# Altium schematic symbol library SamacSys.SchLib: 28 symbols
Pins are listed as number, name and electrical type; pins without a type are passive.

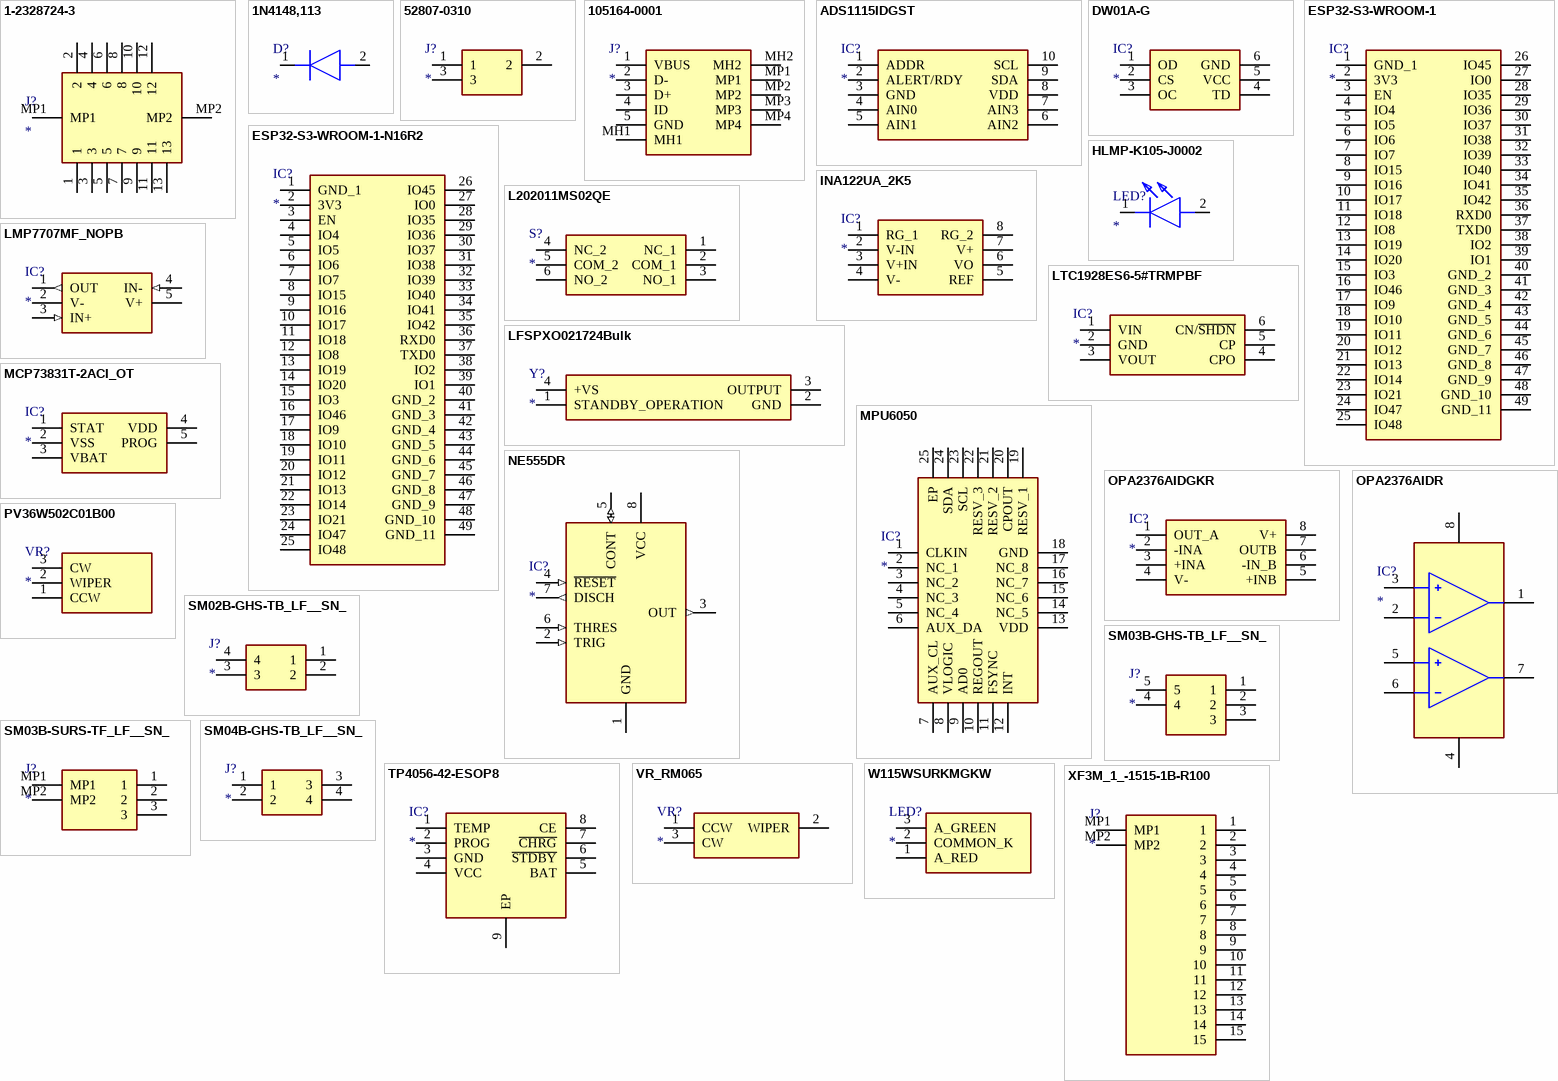
[diagram p0: symbols 1-2328724-3 to XF3M_1_-1515-1B-R100]

## 1-2328724-3
designator J?
Connector; Manufacturer_Name: TE Connectivity; Manufacturer_Part_Number: 1-2328724-3; Datasheet Link: https://www.te.com/commerce/DocumentDelivery/DDEController?Action=showdoc&DocId=Customer+Drawing%7F2328724%7F3%7Fpdf%7FEnglish%7FENG_CD_2328724_3.pdf%7F1-2328724-3; Height: 1.1mm; Mouser Part Number: 571-1-2328724-3; Mouser Price/Stock: https://www.mouser.co.uk/ProductDetail/TE-Connectivity/1-2328724-3?qs=w%2Fv1CP2dgqo8aBCjMy0R7g%3D%3D; Arrow Part Number: 1-2328724-3; Arrow Price/Stock: https://www.arrow.com/en/products/1-2328724-3/te-connectivity?region=nac
footprint 123287243
pins: 1, 2, 3, 4, 5, 6, 7, 8, 9, 10, 11, 12, 13, MP1, MP2

## 1N4148,113
designator D?
Diode; Manufacturer_Name: Nexperia; Manufacturer_Part_Number: 1N4148,113; Datasheet Link: https://assets.nexperia.com/documents/data-sheet/1N4148_1N4448.pdf; Arrow Part Number: 1N4148,113; Arrow Price/Stock: https://www.arrow.com/en/products/1n4148113/nexperia
footprint DIOAD1165W56L425D185
pins: 1 K, 2 A

## 52807-0310
designator J?
Connector; Manufacturer_Name: Molex; Manufacturer_Part_Number: 52807-0310; Datasheet Link: https://www.mouser.com/datasheet/2/276/0528070310_FFC_FPC_CONNECTORS-170814.pdf; Height: 3.6mm; Mouser Part Number: 538-52807-0310; Mouser Price/Stock: https://www.mouser.co.uk/ProductDetail/Molex/52807-0310?qs=359VwiUTsp2MnCLhAvpMeg%3D%3D
footprint 528070310
pins: 1, 2, 3

## 105164-0001
designator J?
Connector; Manufacturer_Name: Molex; Manufacturer_Part_Number: 105164-0001; Datasheet Link: https://www.molex.com/pdm_docs/sd/1051640001_sd.pdf; Height: 2.7mm; Mouser Part Number: 538-105164-0001; Mouser Price/Stock: https://www.mouser.co.uk/ProductDetail/Molex/105164-0001?qs=JAwGc6FMfvtRY4SkW%2FoGcQ%3D%3D
footprint 1051640001
pins: 1 VBUS, 2 D-, 3 D+, 4 ID, 5 GND, MH1, MH2, MP1, MP2, MP3, MP4

## ADS1115IDGST
designator IC?
Integrated Circuit; Manufacturer_Name: Texas Instruments; Manufacturer_Part_Number: ADS1115IDGST; Datasheet Link: https://datasheet.datasheetarchive.com/originals/distributors/Datasheets-SFU2/DSASFU100025989.pdf; Height: 1.1mm; Mouser Part Number: 595-ADS1115IDGST; Mouser Price/Stock: https://www.mouser.co.uk/ProductDetail/Texas-Instruments/ADS1115IDGST?qs=6805eV47HhY3JIwOhQ2zog%3D%3D; Arrow Part Number: ADS1115IDGST; Arrow Price/Stock: https://www.arrow.com/en/products/ads1115idgst/texas-instruments?region=nac
footprint SOP50P490X110-10N
pins: 1 ADDR, 2 ALERT/RDY, 3 GND, 4 AIN0, 5 AIN1, 6 AIN2, 7 AIN3, 8 VDD, 9 SDA, 10 SCL

## DW01A-G
designator IC?
Integrated Circuit; Manufacturer_Name: Fortune Semiconductor Corporation; Manufacturer_Part_Number: DW01A-G; Datasheet Link: http://acoptex.com/uploads/DW01A.pdf; Height: 1.35mm
footprint SOT95P280X135-6N
pins: 1 OD, 2 CS, 3 OC, 4 TD, 5 VCC, 6 GND

## ESP32-S3-WROOM-1
designator IC?
Integrated Circuit; Manufacturer_Name: Espressif Systems; Manufacturer_Part_Number: ESP32-S3-WROOM-1; Datasheet Link: https://www.mouser.com/catalog/specsheets/Espressif_ESP32_S3_WROOM_1_1U_Preliminary.pdf; Height: 3.25mm
footprint ESP32S3WROOM1
pins: 1 GND_1, 2 3V3, 3 EN, 4 IO4, 5 IO5, 6 IO6, 7 IO7, 8 IO15, 9 IO16, 10 IO17, 11 IO18, 12 IO8, 13 IO19, 14 IO20, 15 IO3, 16 IO46, 17 IO9, 18 IO10, 19 IO11, 20 IO12, 21 IO13, 22 IO14, 23 IO21, 24 IO47, 25 IO48, 26 IO45, 27 IO0, 28 IO35, 29 IO36, 30 IO37, 31 IO38, 32 IO39, 33 IO40, 34 IO41, 35 IO42, 36 RXD0, 37 TXD0, 38 IO2, 39 IO1, 40 GND_2, 41 GND_3, 42 GND_4, 43 GND_5, 44 GND_6, 45 GND_7, 46 GND_8, 47 GND_9, 48 GND_10, 49 GND_11

## ESP32-S3-WROOM-1-N16R2
designator IC?
Integrated Circuit; Manufacturer_Name: Espressif Systems; Manufacturer_Part_Number: ESP32-S3-WROOM-1-N16R2; Datasheet Link: https://www.elpro.org/gb/index.php?controller=attachment&id_attachment=18372; Height: 3.25mm; Mouser Part Number: 356-ESP32S3WRM1N16R2; Mouser Price/Stock: https://www.mouser.co.uk/ProductDetail/Espressif-Systems/ESP32-S3-WROOM-1-N16R2?qs=Li%252BoUPsLEnvy1bxV65eH%2Fw%3D%3D
footprint ESP32S3WROOM1N16R2
pins: 1 GND_1, 2 3V3, 3 EN, 4 IO4, 5 IO5, 6 IO6, 7 IO7, 8 IO15, 9 IO16, 10 IO17, 11 IO18, 12 IO8, 13 IO19, 14 IO20, 15 IO3, 16 IO46, 17 IO9, 18 IO10, 19 IO11, 20 IO12, 21 IO13, 22 IO14, 23 IO21, 24 IO47, 25 IO48, 26 IO45, 27 IO0, 28 IO35, 29 IO36, 30 IO37, 31 IO38, 32 IO39, 33 IO40, 34 IO41, 35 IO42, 36 RXD0, 37 TXD0, 38 IO2, 39 IO1, 40 GND_2, 41 GND_3, 42 GND_4, 43 GND_5, 44 GND_6, 45 GND_7, 46 GND_8, 47 GND_9, 48 GND_10, 49 GND_11

## HLMP-K105-J0002
designator LED?
LED; Manufacturer_Name: Avago Technologies; Manufacturer_Part_Number: HLMP-K105-J0002; Datasheet Link: https://docs.broadcom.com/doc/HLMP-D101-D105-K101-K105-T-1-3-4-T-1-High-Intensity-AlInGaP-Deep-Red-LEDs-DS; Height: 6.35mm; Mouser Part Number: 630-HLMP-K105-J0002; Mouser Price/Stock: https://www.mouser.co.uk/ProductDetail/Broadcom-Avago/HLMP-K105-J0002?qs=lQqkXH5tj5RxdWewHkvngA%3D%3D
footprint HLMPK105J0002
pins: 1 K, 2 A

## INA122UA_2K5
designator IC?
Integrated Circuit; Manufacturer_Name: Texas Instruments; Manufacturer_Part_Number: INA122UA/2K5; Datasheet Link: https://www.ti.com/lit/ds/symlink/ina122.pdf?ts=1618981458215&ref_url=https%253A%252F%252Fwww.ti.com%252Fstore%252Fti%252Fen%252Fp%252Fproduct%252F%253Fp%253DINA122UA%252F2K5; Height: 1.75mm; Mouser Part Number: 595-INA122UA/2K5; Mouser Price/Stock: https://www.mouser.co.uk/ProductDetail/Texas-Instruments/INA122UA-2K5?qs=VBduBm9rCJREeSMMditB%2FA%3D%3D; Arrow Part Number: INA122UA/2K5; Arrow Price/Stock: https://www.arrow.com/en/products/ina122ua2k5/texas-instruments?region=nac
footprint SOIC127P600X175-8N
pins: 1 RG_1, 2 V-IN, 3 V+IN, 4 V-, 5 REF, 6 VO, 7 V+, 8 RG_2

## L202011MS02QE
designator S?
Switch; Manufacturer_Name: C & K COMPONENTS; Manufacturer_Part_Number: L202011MS02QE; Datasheet Link: https://www.ckswitches.com/media/1423/l.pdf; Height: 17.61mm; Mouser Part Number: 611-L202011MS02QE; Mouser Price/Stock: https://www.mouser.co.uk/ProductDetail/CK/L202011MS02QE?qs=LgMIjt8LuD9zboWBWuBjUQ%3D%3D; Arrow Part Number: L202011MS02QE; Arrow Price/Stock: https://www.arrow.com/en/products/l202011ms02qe/ck?region=nac
footprint L202011MS02QE
pins: 1 NC_1, 2 COM_1, 3 NO_1, 4 NC_2, 5 COM_2, 6 NO_2

## LFSPXO021724Bulk
designator Y?
Crystal or Oscillator; Manufacturer_Name: IQD; Manufacturer_Part_Number: LFSPXO021724Bulk; Datasheet Link: https://www.iqdfrequencyproducts.com/products/pn/LFSPXO021724Bulk.pdf; Height: 1.4mm; Mouser Part Number: 449-LFSPXO021724BULK; Mouser Price/Stock: https://www.mouser.co.uk/ProductDetail/IQD/LFSPXO021724Bulk?qs=SNm0F99quPEsD7a%2FbMkZUA%3D%3D
footprint LFSPXO021724Bulk
pins: 1 STANDBY_OPERATION, 2 GND, 3 OUTPUT, 4 +VS

## LMP7707MF_NOPB
designator IC?
Integrated Circuit; Manufacturer_Name: Texas Instruments; Manufacturer_Part_Number: LMP7707MF/NOPB; Datasheet Link: http://www.ti.com/lit/ds/symlink/lmp7707.pdf; Height: 1.45mm; Mouser Part Number: 926-LMP7707MF/NOPB; Mouser Price/Stock: https://www.mouser.co.uk/ProductDetail/Texas-Instruments/LMP7707MF-NOPB?qs=7lkVKPoqpbZ%2FzuOVETquPA%3D%3D; Arrow Part Number: LMP7707MF/NOPB; Arrow Price/Stock: https://www.arrow.com/en/products/lmp7707mfnopb/texas-instruments?region=nac
footprint SOT95P280X145-5N
pins: 1 OUT (out), 2 V-, 3 IN+ (in), 4 IN- (in), 5 V+

## LTC1928ES6-5#TRMPBF
designator IC?
Integrated Circuit; Manufacturer_Name: Analog Devices; Manufacturer_Part_Number: LTC1928ES6-5#TRMPBF; Datasheet Link: https://www.analog.com/media/en/technical-documentation/data-sheets/19285fa.pdf; Height: 1mm; Mouser Part Number: 584-C1928ES6-5TRMPBF; Mouser Price/Stock: https://www.mouser.co.uk/ProductDetail/Analog-Devices/LTC1928ES6-5TRMPBF?qs=hVkxg5c3xu%2FjD4zbIUA3NA%3D%3D; Arrow Part Number: LTC1928ES6-5#TRMPBF; Arrow Price/Stock: https://www.arrow.com/en/products/ltc1928es6-5trmpbf/analog-devices?region=nac
footprint SOT95P280X100-6N
pins: 1 VIN, 2 GND, 3 VOUT, 4 CPO, 5 CP, 6 CN/~{SHDN}

## MCP73831T-2ACI_OT
designator IC?
Integrated Circuit; Manufacturer_Name: Microchip; Manufacturer_Part_Number: MCP73831T-2ACI/OT; Datasheet Link: http://ww1.microchip.com/downloads/en/DeviceDoc/20001984g.pdf; Height: 1.45mm; Mouser Part Number: 579-MCP73831T-2ACIOT; Mouser Price/Stock: https://www.mouser.co.uk/ProductDetail/Microchip-Technology/MCP73831T-2ACI-OT?qs=yUQqVecv4qvbBQBGbHx0Mw%3D%3D; Arrow Part Number: MCP73831T-2ACI/OT; Arrow Price/Stock: https://www.arrow.com/en/products/mcp73831t-2aciot/microchip-technology?region=nac
footprint SOT95P270X145-5N
pins: 1 STAT, 2 VSS, 3 VBAT, 4 VDD, 5 PROG

## MPU6050
designator IC?
Integrated Circuit; Manufacturer_Name: TDK; Manufacturer_Part_Number: MPU6050; Datasheet Link: https://invensense.tdk.com/wp-content/uploads/2015/02/MPU-6000-Datasheet1.pdf; Height: 0.95mm
footprint MPU6050
pins: 1 CLKIN, 2 NC_1, 3 NC_2, 4 NC_3, 5 NC_4, 6 AUX_DA, 7 AUX_CL, 8 VLOGIC, 9 AD0, 10 REGOUT, 11 FSYNC, 12 INT, 13 VDD, 14 NC_5, 15 NC_6, 16 NC_7, 17 NC_8, 18 GND, 19 RESV_1, 20 CPOUT, 21 RESV_2, 22 RESV_3, 23 SCL, 24 SDA, 25 EP

## NE555DR
designator IC?
Integrated Circuit; Manufacturer_Name: Texas Instruments; Manufacturer_Part_Number: NE555DR; Datasheet Link: http://www.ti.com/lit/ds/symlink/ne555.pdf; Height: 1.75mm; Mouser Part Number: 595-NE555DR; Mouser Price/Stock: https://www.mouser.com/Search/Refine.aspx?Keyword=595-NE555DR; RS Part Number: 1218414; RS Price/Stock: http://uk.rs-online.com/web/p/products/1218414
footprint SOIC127P600X175-8N
pins: 1 GND (power), 2 TRIG (in), 3 OUT (out), 4 ~{RESET} (in), 5 CONT (io), 6 THRES (in), 7 DISCH (out), 8 VCC (power)

## OPA2376AIDGKR
designator IC?
Integrated Circuit; Manufacturer_Name: Texas Instruments; Manufacturer_Part_Number: OPA2376AIDGKR; Datasheet Link: http://www.ti.com/lit/gpn/opa2376; Height: 1.1mm; Mouser Part Number: 595-OPA2376AIDGKR; Mouser Price/Stock: https://www.mouser.co.uk/ProductDetail/Texas-Instruments/OPA2376AIDGKR?qs=ToK3%2FczOkx%252BO324gj8FQUw%3D%3D; Arrow Part Number: OPA2376AIDGKR; Arrow Price/Stock: https://www.arrow.com/en/products/opa2376aidgkr/texas-instruments?region=nac
footprint SOP65P490X110-8N
pins: 1 OUT_A, 2 -INA, 3 +INA, 4 V-, 5 +INB, 6 -IN_B, 7 OUTB, 8 V+

## OPA2376AIDR
designator IC?
Integrated Circuit; Manufacturer_Name: Texas Instruments; Manufacturer_Part_Number: OPA2376AIDR; Datasheet Link: http://www.ti.com/lit/gpn/opa2376; Height: 1.75mm; Mouser Part Number: 595-OPA2376AIDR; Mouser Price/Stock: https://www.mouser.co.uk/ProductDetail/Texas-Instruments/OPA2376AIDR?qs=ToK3%2FczOkx%252Bxmk6qQPqmUQ%3D%3D; Arrow Part Number: OPA2376AIDR; Arrow Price/Stock: https://www.arrow.com/en/products/opa2376aidr/texas-instruments?region=nac
footprint SOIC127P600X175-8N
pins: 1 OUT_A, 2 -IN_A, 3 +IN_A, 4 V-, 5 +IN_B, 6 -IN_B, 7 OUT_B, 8 V+

## PV36W502C01B00
designator VR?
Variable Resistor; Manufacturer_Name: Bourns; Manufacturer_Part_Number: PV36W502C01B00; Datasheet Link: https://www.mouser.com/datasheet/2/54/pv36-907345.pdf; Height: 11.55mm; Mouser Part Number: 81-PV36W502C01B00; Mouser Price/Stock: https://www.mouser.co.uk/ProductDetail/Bourns/PV36W502C01B00?qs=BqPwLKJeIrffwfpi4cR%2Fyg%3D%3D; Arrow Part Number: PV36W502C01B00; Arrow Price/Stock: https://www.arrow.com/en/products/pv36w502c01b00/bourns?region=nac
footprint PV36W502C01B00
pins: 1 CCW, 2 WIPER, 3 CW

## SM02B-GHS-TB_LF__SN_
designator J?
Connector; Manufacturer_Name: JST (JAPAN SOLDERLESS TERMINALS); Manufacturer_Part_Number: SM02B-GHS-TB(LF)(SN); Datasheet Link: https://datasheet.datasheetarchive.com/originals/distributors/Datasheets_SAMA/e4ef010dc292ea31091454f6c0afb63a.pdf; Height: 4.25mm; Arrow Part Number: SM02B-GHS-TB(LF)(SN); Arrow Price/Stock: https://www.arrow.com/en/products/sm02b-ghs-tb-lf-sn/jst-manufacturing?region=europe
footprint SM02BGHSTBLFSN
pins: 1, 2, 3, 4

## SM03B-GHS-TB_LF__SN_
designator J?
Connector; Manufacturer_Name: JST (JAPAN SOLDERLESS TERMINALS); Manufacturer_Part_Number: SM03B-GHS-TB(LF)(SN); Datasheet Link: http://www.jst-mfg.com/product/pdf/eng/eGH.pdf; Arrow Part Number: SM03B-GHS-TB(LF)(SN); Arrow Price/Stock: https://www.arrow.com/en/products/sm03b-ghs-tb-lf-sn/jst-manufacturing?region=europe
footprint SM03BGHSTBLFSN
pins: 1, 2, 3, 4, 5

## SM03B-SURS-TF_LF__SN_
designator J?
Connector; Manufacturer_Name: JST (JAPAN SOLDERLESS TERMINALS); Manufacturer_Part_Number: SM03B-SURS-TF(LF)(SN); Datasheet Link: https://datasheet.lcsc.com/szlcsc/JST-Sales-America-SM03B-SURS-TF-LF-SN_C265338.pdf; Height: 1.75mm
footprint SM03BSURSTFLFSN
pins: 1, 2, 3, MP1, MP2

## SM04B-GHS-TB_LF__SN_
designator J?
Connector; Manufacturer_Name: JST (JAPAN SOLDERLESS TERMINALS); Manufacturer_Part_Number: SM04B-GHS-TB(LF)(SN); Description: JST GH Series; Datasheet Link: http://uk.rs-online.com/web/p/products/7521797; Arrow Part Number: SM04B-GHS-TB(LF)(SN); Arrow Price/Stock: https://www.arrow.com/en/products/sm04b-ghs-tb-lf-sn-/jst-manufacturing?region=europe
footprint SM04B-GHS-TB
pins: 1, 2, 3, 4

## TP4056-42-ESOP8
designator IC?
Integrated Circuit; Manufacturer_Name: NanJing Top Power; Manufacturer_Part_Number: TP4056-42-ESOP8; Datasheet Link: https://datasheet.lcsc.com/szlcsc/1906261508_Nanjing-Extension-Microelectronics-TP4056-42-ESOP8_C16581.pdf; Height: 1.75mm
footprint SOIC127P600X175-9N
pins: 1 TEMP, 2 PROG, 3 GND, 4 VCC, 5 BAT, 6 ~{STDBY}, 7 ~{CHRG}, 8 CE, 9 EP

## VR_RM065
designator VR?
Variable Resistor; Manufacturer_Name: Runtron; Manufacturer_Part_Number: VR RM065; Datasheet Link: https://www.dipmicro.com/?datasheet=RM065.pdf; Height: 7.5mm
footprint VRRM065
pins: 1 CCW, 2 WIPER, 3 CW

## W115WSURKMGKW
designator LED?
LED; Manufacturer_Name: Kingbright; Manufacturer_Part_Number: W115WSURKMGKW; Datasheet Link: https://componentsearchengine.com/Datasheets/1/W115WSURKMGKW.pdf; Height: 7.1mm; Mouser Part Number: 604-W115WSURKMGKW; Mouser Price/Stock: https://www.mouser.co.uk/ProductDetail/Kingbright/W115WSURKMGKW?qs=93uzuGORGqfojqV%2FkVkDiw%3D%3D
footprint W115WSURKMGKW
pins: 1 A_RED, 2 COMMON_K, 3 A_GREEN

## XF3M_1_-1515-1B-R100
designator J?
Connector; Manufacturer_Name: Omron Electronics; Manufacturer_Part_Number: XF3M(1)-1515-1B-R100; Datasheet Link: https://componentsearchengine.com/Datasheets/1/XF3M(1)-1515-1B-R100.pdf; Height: 3.13mm; Mouser Part Number: 653-XF3M115151BR100; Mouser Price/Stock: https://www.mouser.co.uk/ProductDetail/Omron-Electronics/XF3M1-1515-1B-R100?qs=80xXPH4%252BkIkeo0n5U3DyAA%3D%3D
footprint XF3M115151BR100
pins: 1, 2, 3, 4, 5, 6, 7, 8, 9, 10, 11, 12, 13, 14, 15, MP1, MP2